# Altium footprint library WB_CONNECTOR.PcbLib: 32 footprints (part 3 of 3)
Each footprint in its own frame and in the unit in brackets; x right, y up, seen from the top. Pads: shape width x height; smd on the part's side, far side on the other; paste and mask are expansions set on the pad; w line width, h text height; cw(c..) or ccw(c..) is an arc to the next point about the centre after c.
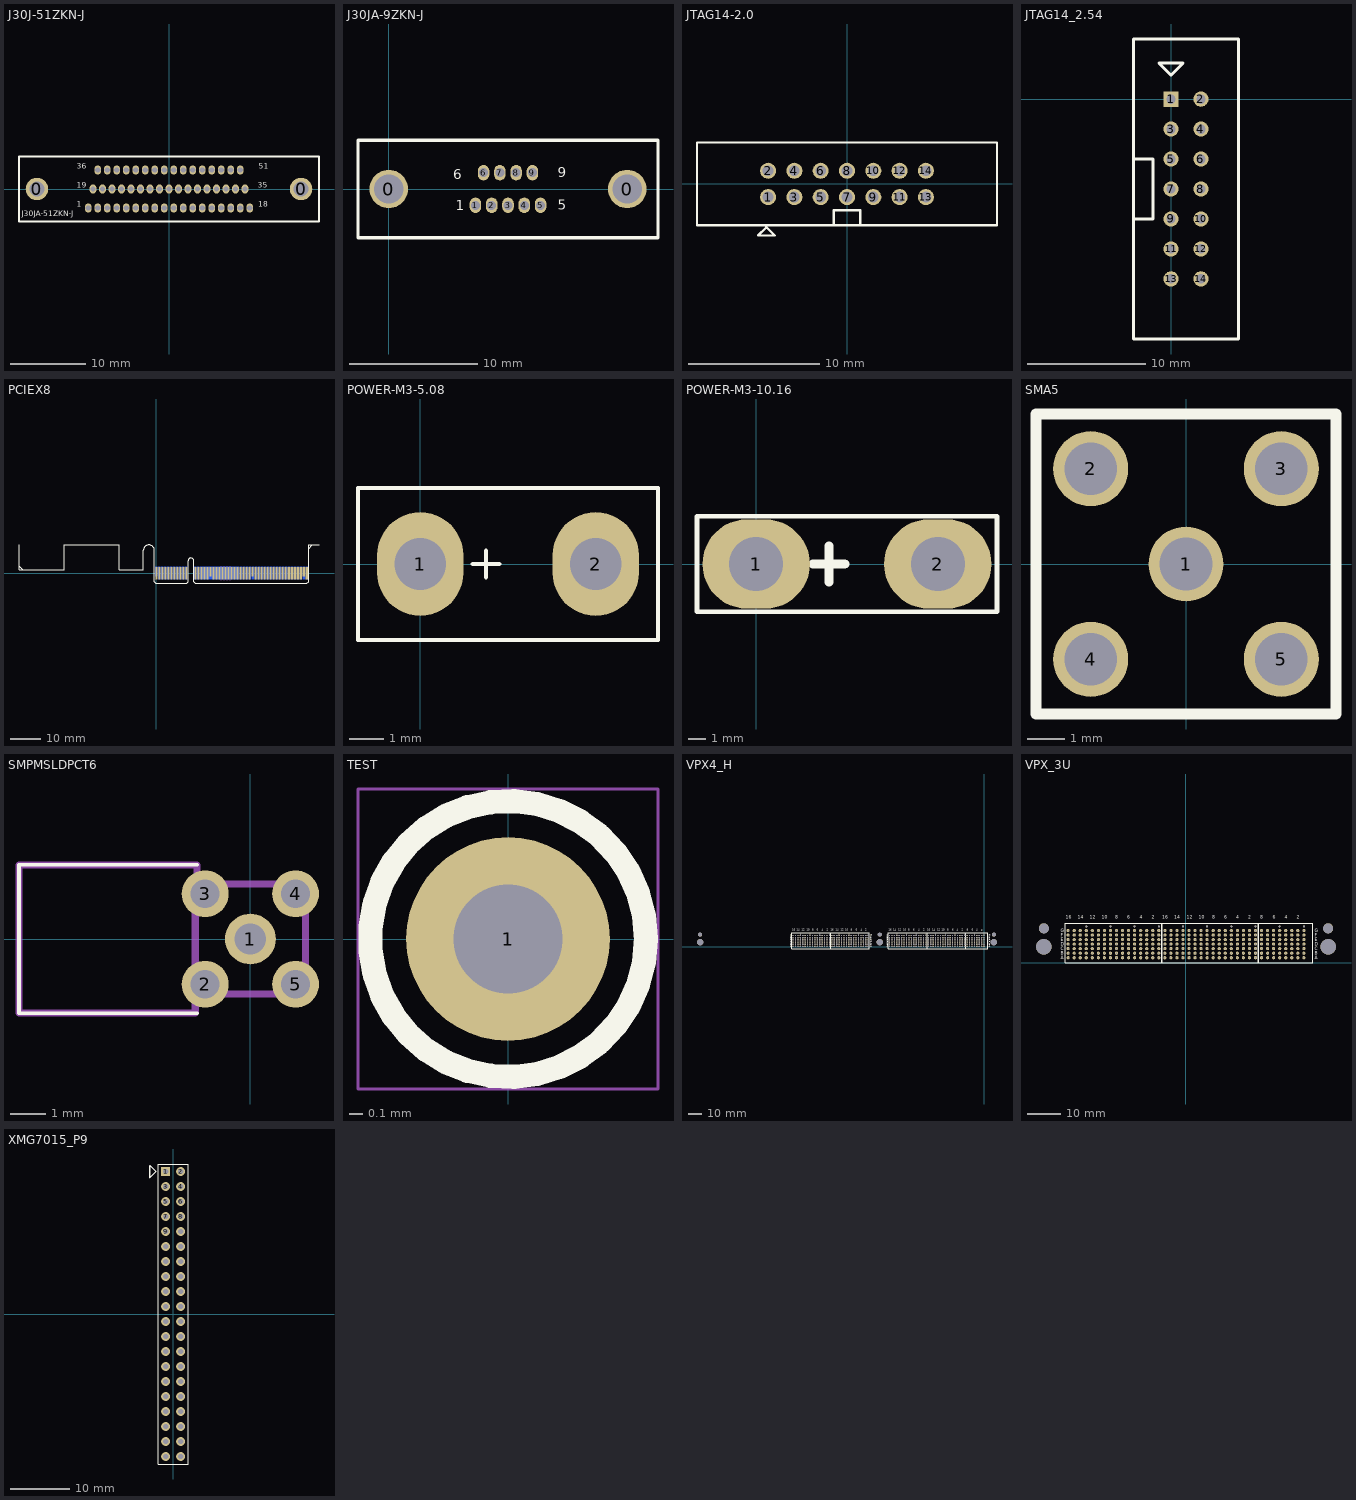
[diagram p2: the footprints below, top view; thin cyan lines are the x and y axes]

## J30J-51ZKN-J [mm]
height 20
pads (53):
  round 3 hole 2: 0(-17.65,0) 0(17.65,0)
  oval 0.9x1.2 hole 0.7: 1(-10.795,-2.54) 2(-9.525,-2.54) 3(-8.255,-2.54) 4(-6.985,-2.54) 5(-5.715,-2.54) 6(-4.445,-2.54) 7(-3.175,-2.54) 8(-1.905,-2.54) 9(-0.635,-2.54) 10(0.635,-2.54) 11(1.905,-2.54) 12(3.175,-2.54) 13(4.445,-2.54) 14(5.715,-2.54) 15(6.985,-2.54) 16(8.255,-2.54) 17(9.525,-2.54) 18(10.795,-2.54) 19(-10.16,0) 20(-8.89,0) 21(-7.62,0) 22(-6.35,0) 23(-5.08,0) 24(-3.81,0) 25(-2.54,0) 26(-1.27,0) 27(0,0) 28(1.27,0) 29(2.54,0) 30(3.81,0) 31(5.08,0) 32(6.35,0) 33(7.62,0) 34(8.89,0) 35(10.16,0) 36(-9.525,2.54) 37(-8.255,2.54) 38(-6.985,2.54) 39(-5.715,2.54) 40(-4.445,2.54) 41(-3.175,2.54) 42(-1.905,2.54) 43(-0.635,2.54) 44(0.635,2.54) 45(1.905,2.54) 46(3.175,2.54) 47(4.445,2.54) 48(5.715,2.54) 49(6.985,2.54) 50(8.255,2.54) 51(9.525,2.54)
Top Overlay:
  lines w0.254: -20.05,-4.35 20.05,-4.35 20.05,4.35 -20.05,4.35 -20.05,-4.35
  text "51" at 12.02,2.426 h1.27
  text "35" at 11.858,-0.113 h1.27
  text "36" at -12.319,2.441 h1.27
  text "19" at -12.319,-0.1 h1.27
  text "18" at 11.938,-2.654 h1.27
  text "1" at -12.319,-2.653 h1.27
  text "J30JA-51ZKN-J" at -19.688,-3.923 h1.27

## J30JA-9ZKN-J [mm]
pads (11):
  round 3 hole 2.3: 0(0,0) 0(18.6,0)
  oval 0.9x1.2 hole 0.7: 1(6.76,-1.27) 2(8.03,-1.27) 3(9.3,-1.27) 4(10.57,-1.27) 5(11.84,-1.27) 6(7.395,1.27) 7(8.665,1.27) 8(9.935,1.27) 9(11.205,1.27)
Top Overlay:
  lines w0.254: -2.4,-3.8 18.6,-3.8 21,-3.8 21,0 21,3.8 0,3.8 -2.4,3.8 -2.4,0 -2.4,-3.8
  text "1" at 5.207,-1.651 h0.76
  text "5" at 13.162,-1.623 h0.76
  text "9" at 13.162,0.917 h0.76
  text "6" at 5.028,0.745 h0.76

## JTAG14-2.0 [mil]
height 39.37
pads (14):
  round 48 hole 32: 1(-236.22,-39.37) 2(-236.22,39.37) 3(-157.48,-39.37) 4(-157.48,39.37) 5(-78.74,-39.37) 6(-78.74,39.37) 7(0,-39.37) 8(0,39.37) 9(78.74,-39.37) 10(78.74,39.37) 11(157.48,-39.37) 12(157.48,39.37) 13(236.22,-39.37) 14(236.22,39.37)
Top Overlay:
  lines w7: -39.37,-124.02 -39.37,-78.74 39.37,-78.74 39.37,-124.02 ; -448.82,-124.02 448.82,-124.02 448.82,124.02 -448.82,124.02 -448.82,-124.02 ; -266.22,-154.37 -241.22,-129.37 -216.22,-154.37 -266.22,-154.37

## JTAG14_2.54 [mm]
pads (14):
  rect 1.3x1.3 hole 0.8: 1(0,0)
  round 1.3 hole 0.8: 2(2.54,0) 3(0,-2.54) 4(2.54,-2.54) 5(0,-5.08) 6(2.54,-5.08) 7(0,-7.62) 8(2.54,-7.62) 9(0,-10.16) 10(2.54,-10.16) 11(0,-12.7) 12(2.54,-12.7) 13(0,-15.24) 14(2.54,-15.24)
Top Overlay:
  lines w0.254: -3.18,-10.16 -1.524,-10.16 -1.524,-5.08 -3.18,-5.08 ; -3.18,-20.335 5.72,-20.335 5.72,5.095 -3.18,5.095 -3.18,-20.335 ; -1.016,3.048 0,2.032 1.016,3.048 -1.016,3.048

## PCIEX8 [mm] "PCIEX8"
pads (98):
  rect 0.7x3.2 smd far side: A1(0,0.5)
  rect 0.7x4.2 smd far side: A2(1,0) A3(2,0) A4(3,0) A5(4,0) A6(5,0) A7(6,0) A8(7,0) A9(8,0) A10(9,0) A11(10,0) A12(13,0) A13(14,0) A14(15,0) A15(16,0) A16(17,0) A17(18,0) A18(19,0) A19(20,0) A20(21,0) A21(22,0) A22(23,0) A23(24,0) A24(25,0) A25(26,0) A26(27,0) A27(28,0) A28(29,0) A29(30,0) A30(31,0) A31(32,0) A32(33,0)
  rect 0.711x4.191 smd far side: A33(34,0) A34(35,0) A35(36,0) A36(37,0) A37(38,0) A38(39,0) A39(40,0) A40(41,0) A41(42,0) A42(43,0) A43(44,0) A44(45,0) A45(46,0) A46(47,0) A47(48,0) A48(49,0) A49(50,0)
  rect 0.7x4.2 smd: B1(0,0) B2(1,0) B3(2,0) B4(3,0) B5(4,0) B6(5,0) B7(6,0) B8(7,0) B9(8,0) B10(9,0) B11(10,0) B12(13,0) B13(14,0) B14(15,0) B15(16,0) B16(17,0) B18(19,0) B19(20,0) B20(21,0) B21(22,0) B22(23,0) B23(24,0) B24(25,0) B25(26,0) B26(27,0) B27(28,0) B28(29,0) B29(30,0) B30(31,0) B32(33,0)
  rect 0.7x3.2 smd: B17(18,0.5) B31(32,0.5)
  rect 0.711x4.191 smd: B33(34,0) B34(35,0) B35(36,0) B36(37,0) B37(38,0) B38(39,0) B39(40,0) B40(41,0) B41(42,0) B42(43,0) B43(44,0) B44(45,0) B45(46,0) B46(47,0) B47(48,0) B49(50,0)
  rect 0.711x3.2 smd: B48(49,0.495)
Top Overlay:
  lines w0.127: -45.65,9.377 -45.65,1.127 -30.65,1.127 -30.65,9.377 -12.3,9.377 -12.3,1.127 -4.3,1.127 -4.3,7.552 cw(c-2.475,7.552) -2.475,9.377 cw(c-2.475,7.552) -0.65,7.552 -0.65,-2.873 -0.15,-3.373 10.05,-3.373 10.55,-2.873 10.55,4.077 cw(c11.5,4.077) 11.5,5.027 cw(c11.5,4.077) 12.45,4.077 12.45,-2.873 12.95,-3.373 50.069,-3.373 50.648,-2.794 50.648,9.433 54.077,9.433 ; -45.643,2.311 -44.348,1.143 ; 50.664,8.131 51.832,9.426
Mechanical 15:
  lines w0.025: 21.5,-2.3 21.5,2.3 ; 22.5,-2.3 22.5,2.3 ; 23.5,-2.3 23.5,2.3 ; 24.5,-2.3 24.5,2.3

## POWER-M3-5.08 [mm]
pads (2):
  oval 2.5x3 hole 1.5: 1(0,0) 2(5.08,0)
Top Overlay:
  lines w0.127: 1.524,0 2.286,0 ; 1.905,-0.381 1.905,0.381 ; -1.8,-2.2 -1.8,0 -1.8,2.2 6.88,2.2 6.88,-2.2 -1.8,-2.2

## POWER-M3-10.16 [mm]
pads (2):
  oval 6x5 hole 3: 1(0,0) 2(10.16,0)
Top Overlay:
  lines w0.254: -3.302,-2.667 13.462,-2.667 13.462,2.667 -3.302,2.667 -3.302,-0.74 -3.302,-2.667
  lines w0.508: 3.175,0 4.953,0 ; 4.064,-1.016 4.064,1.016

## SMA5 [mm]
pads (5):
  round 2 hole 1.4: 1(0,0) 2(-2.54,2.54) 3(2.54,2.54) 4(-2.54,-2.54) 5(2.54,-2.54)
Top Overlay:
  lines w0.305: -4,-4 -4,4 4,4 4,-4 -4,-4

## SMPMSLDPCT6 [mm]
pads (5):
  round 1.43 hole 0.88: 1(0,0)
  round 1.316 hole 0.81: 2(-1.27,-1.27) 3(-1.27,1.27) 4(1.27,1.27) 5(1.27,-1.27)
Top Overlay:
  lines w0.1: -1.5,-2.08 -6.5,-2.08 -6.5,2.08 -1.5,2.08
Mechanical 13:
  lines w0.2: -1.55,-1.27 -1.55,-2.08 -6.5,-2.08 -6.5,2.08 -1.5,2.08 -1.5,1.5 ; -1.55,-1.55 1.55,-1.55 1.55,1.55 -1.55,1.55 -1.55,-1.55

## TEST [mil] "TEST"
pads (1):
  round 59.06 / inner round 0 / far side round 59.06 hole 31.5: 1(0,0)
Top Overlay:
  circle w7: c0,0 r40
Mechanical 7:
  lines w1: -43.5,-43.5 43.5,-43.5 43.5,43.5 -43.5,43.5 -43.5,-43.5

## VPX4_H [mm]
pads (528):
  round 0.95 hole 0.45: P0_A1(0,0) P0_A2(-1.8,0) P0_A3(-3.6,0) P0_A4(-5.4,0) P0_A5(-7.2,0) P0_A6(-9,0) P0_A7(-10.8,0) P0_A8(-12.6,0) P0_B1(0,1.35) P0_B2(-1.8,1.35) P0_B3(-3.6,1.35) P0_B4(-5.4,1.35) P0_B5(-7.2,1.35) P0_B6(-9,1.35) P0_B7(-10.8,1.35) P0_B8(-12.6,1.35) P0_C1(0,2.7) P0_C2(-1.8,2.7) P0_C3(-3.6,2.7) P0_C4(-5.4,2.7) P0_C5(-7.2,2.7) P0_C6(-9,2.7) P0_C7(-10.8,2.7) P0_C8(-12.6,2.7) P0_D1(0,4.05) P0_D2(-1.8,4.05) P0_D3(-3.6,4.05) P0_D4(-5.4,4.05) P0_D5(-7.2,4.05) P0_D6(-9,4.05) P0_D7(-10.8,4.05) P0_D8(-12.6,4.05) P0_E1(0,5.4) P0_E2(-1.8,5.4) P0_E3(-3.6,5.4) P0_E4(-5.4,5.4) P0_E5(-7.2,5.4) P0_E6(-9,5.4) P0_E7(-10.8,5.4) P0_E8(-12.6,5.4) P0_F1(0,6.75) P0_F2(-1.8,6.75) P0_F3(-3.6,6.75) P0_F4(-5.4,6.75) P0_F5(-7.2,6.75) P0_F6(-9,6.75) P0_F7(-10.8,6.75) P0_F8(-12.6,6.75) P0_G1(0,8.1) P0_G2(-1.8,8.1) P0_G3(-3.6,8.1) P0_G4(-5.4,8.1) P0_G5(-7.2,8.1) P0_G6(-9,8.1) P0_G7(-10.8,8.1) P0_G8(-12.6,8.1) P1_A1(-14.4,0) P1_A2(-16.2,0) P1_A3(-18,0) P1_A4(-19.8,0) P1_A5(-21.6,0) P1_A6(-23.4,0) P1_A7(-25.2,0) P1_A8(-27,0) P1_A9(-28.8,0) P1_A10(-30.6,0) P1_A11(-32.4,0) P1_A12(-34.2,0) P1_A13(-36,0) P1_A14(-37.8,0) P1_A15(-39.6,0) P1_A16(-41.4,0) P1_B1(-14.4,1.35) P1_B2(-16.2,1.35) P1_B3(-18,1.35) P1_B4(-19.8,1.35) P1_B5(-21.6,1.35) P1_B6(-23.4,1.35) P1_B7(-25.2,1.35) P1_B8(-27,1.35) P1_B9(-28.8,1.35) P1_B10(-30.6,1.35) P1_B11(-32.4,1.35) P1_B12(-34.2,1.35) P1_B13(-36,1.35) P1_B14(-37.8,1.35) P1_B15(-39.6,1.35) P1_B16(-41.4,1.35) P1_C1(-14.4,2.7) P1_C2(-16.2,2.7) P1_C3(-18,2.7) P1_C4(-19.8,2.7) P1_C5(-21.6,2.7) P1_C6(-23.4,2.7) P1_C7(-25.2,2.7) P1_C8(-27,2.7) P1_C9(-28.8,2.7) P1_C10(-30.6,2.7) P1_C11(-32.4,2.7) P1_C12(-34.2,2.7) P1_C13(-36,2.7) P1_C14(-37.8,2.7) P1_C15(-39.6,2.7) P1_C16(-41.4,2.7) P1_D1(-14.4,4.05) P1_D2(-16.2,4.05) P1_D3(-18,4.05) P1_D4(-19.8,4.05) P1_D5(-21.6,4.05) P1_D6(-23.4,4.05) P1_D7(-25.2,4.05) P1_D8(-27,4.05) P1_D9(-28.8,4.05) P1_D10(-30.6,4.05) P1_D11(-32.4,4.05) P1_D12(-34.2,4.05) P1_D13(-36,4.05) P1_D14(-37.8,4.05) P1_D15(-39.6,4.05) P1_D16(-41.4,4.05) P1_E1(-14.4,5.4) P1_E2(-16.2,5.4) P1_E3(-18,5.4) P1_E4(-19.8,5.4) P1_E5(-21.6,5.4) P1_E6(-23.4,5.4) P1_E7(-25.2,5.4) P1_E8(-27,5.4) P1_E9(-28.8,5.4) P1_E10(-30.6,5.4) P1_E11(-32.4,5.4) P1_E12(-34.2,5.4) P1_E13(-36,5.4) P1_E14(-37.8,5.4) P1_E15(-39.6,5.4) P1_E16(-41.4,5.4) P1_F1(-14.4,6.75) P1_F2(-16.2,6.75) P1_F3(-18,6.75) P1_F4(-19.8,6.75) P1_F5(-21.6,6.75) P1_F6(-23.4,6.75) P1_F7(-25.2,6.75) P1_F8(-27,6.75) P1_F9(-28.8,6.75) P1_F10(-30.6,6.75) P1_F11(-32.4,6.75) P1_F12(-34.2,6.75) P1_F13(-36,6.75) P1_F14(-37.8,6.75) P1_F15(-39.6,6.75) P1_F16(-41.4,6.75) P1_G1(-14.4,8.1) P1_G2(-16.2,8.1) P1_G3(-18,8.1) P1_G4(-19.8,8.1) P1_G5(-21.6,8.1) P1_G6(-23.4,8.1) P1_G7(-25.2,8.1) P1_G8(-27,8.1) P1_G9(-28.8,8.1) P1_G10(-30.6,8.1) P1_G11(-32.4,8.1) P1_G12(-34.2,8.1) P1_G13(-36,8.1) P1_G14(-37.8,8.1) P1_G15(-39.6,8.1) P1_G16(-41.4,8.1) P2_A1(-43.2,0) P2_A2(-45,0) P2_A3(-46.8,0) P2_A4(-48.6,0) P2_A5(-50.4,0) P2_A6(-52.2,0) P2_A7(-54,0) P2_A8(-55.8,0) P2_A9(-57.6,0) P2_A10(-59.4,0) P2_A11(-61.2,0) P2_A12(-63,0) P2_A13(-64.8,0) P2_A14(-66.6,0) P2_A15(-68.4,0) P2_A16(-70.2,0) P2_B1(-43.2,1.35) P2_B2(-45,1.35) P2_B3(-46.8,1.35) P2_B4(-48.6,1.35) P2_B5(-50.4,1.35) P2_B6(-52.2,1.35) P2_B7(-54,1.35) P2_B8(-55.8,1.35) P2_B9(-57.6,1.35) P2_B10(-59.4,1.35) P2_B11(-61.2,1.35) P2_B12(-63,1.35) P2_B13(-64.8,1.35) P2_B14(-66.6,1.35) P2_B15(-68.4,1.35) P2_B16(-70.2,1.35) P2_C1(-43.2,2.7) P2_C2(-45,2.7) P2_C3(-46.8,2.7) P2_C4(-48.6,2.7) P2_C5(-50.4,2.7) P2_C6(-52.2,2.7) P2_C7(-54,2.7) P2_C8(-55.8,2.7) P2_C9(-57.6,2.7) P2_C10(-59.4,2.7) P2_C11(-61.2,2.7) P2_C12(-63,2.7) P2_C13(-64.8,2.7) P2_C14(-66.6,2.7) P2_C15(-68.4,2.7) P2_C16(-70.2,2.7) P2_D1(-43.2,4.05) P2_D2(-45,4.05) P2_D3(-46.8,4.05) P2_D4(-48.6,4.05) P2_D5(-50.4,4.05) P2_D6(-52.2,4.05) P2_D7(-54,4.05) P2_D8(-55.8,4.05) P2_D9(-57.6,4.05) P2_D10(-59.4,4.05) P2_D11(-61.2,4.05) P2_D12(-63,4.05) P2_D13(-64.8,4.05) P2_D14(-66.6,4.05) P2_D15(-68.4,4.05) P2_D16(-70.2,4.05) P2_E1(-43.2,5.4) P2_E2(-45,5.4) P2_E3(-46.8,5.4) P2_E4(-48.6,5.4) P2_E5(-50.4,5.4) P2_E6(-52.2,5.4) P2_E7(-54,5.4) P2_E8(-55.8,5.4) P2_E9(-57.6,5.4) P2_E10(-59.4,5.4) P2_E11(-61.2,5.4) P2_E12(-63,5.4) P2_E13(-64.8,5.4) P2_E14(-66.6,5.4) P2_E15(-68.4,5.4) P2_E16(-70.2,5.4) P2_F1(-43.2,6.75) P2_F2(-45,6.75) P2_F3(-46.8,6.75) P2_F4(-48.6,6.75) P2_F5(-50.4,6.75) P2_F6(-52.2,6.75) P2_F7(-54,6.75) P2_F8(-55.8,6.75) P2_F9(-57.6,6.75) P2_F10(-59.4,6.75) P2_F11(-61.2,6.75) P2_F12(-63,6.75) P2_F13(-64.8,6.75) P2_F14(-66.6,6.75) P2_F15(-68.4,6.75) P2_F16(-70.2,6.75) P2_G1(-43.2,8.1) P2_G2(-45,8.1) P2_G3(-46.8,8.1) P2_G4(-48.6,8.1) P2_G5(-50.4,8.1) P2_G6(-52.2,8.1) P2_G7(-54,8.1) P2_G8(-55.8,8.1) P2_G9(-57.6,8.1) P2_G10(-59.4,8.1) P2_G11(-61.2,8.1) P2_G12(-63,8.1) P2_G13(-64.8,8.1) P2_G14(-66.6,8.1) P2_G15(-68.4,8.1) P2_G16(-70.2,8.1) P3_A1(-86.02,0) P3_A2(-87.82,0) P3_A3(-89.62,0) P3_A4(-91.42,0) P3_A5(-93.22,0) P3_A6(-95.02,0) P3_A7(-96.82,0) P3_A8(-98.62,0) P3_A9(-100.42,0) P3_A10(-102.22,0) P3_A11(-104.02,0) P3_A12(-105.82,0) P3_A13(-107.62,0) P3_A14(-109.42,0) P3_A15(-111.22,0) P3_A16(-113.02,0) P3_B1(-86.02,1.35) P3_B2(-87.82,1.35) P3_B3(-89.62,1.35) P3_B4(-91.42,1.35) P3_B5(-93.22,1.35) P3_B6(-95.02,1.35) P3_B7(-96.82,1.35) P3_B8(-98.62,1.35) P3_B9(-100.42,1.35) P3_B10(-102.22,1.35) P3_B11(-104.02,1.35) P3_B12(-105.82,1.35) P3_B13(-107.62,1.35) P3_B14(-109.42,1.35) P3_B15(-111.22,1.35) P3_B16(-113.02,1.35) P3_C1(-86.02,2.7) P3_C2(-87.82,2.7) P3_C3(-89.62,2.7) P3_C4(-91.42,2.7) P3_C5(-93.22,2.7) P3_C6(-95.02,2.7) P3_C7(-96.82,2.7) P3_C8(-98.62,2.7) P3_C9(-100.42,2.7) P3_C10(-102.22,2.7) P3_C11(-104.02,2.7) P3_C12(-105.82,2.7) P3_C13(-107.62,2.7) P3_C14(-109.42,2.7) P3_C15(-111.22,2.7) P3_C16(-113.02,2.7) P3_D1(-86.02,4.05) P3_D2(-87.82,4.05) P3_D3(-89.62,4.05) P3_D4(-91.42,4.05) P3_D5(-93.22,4.05) P3_D6(-95.02,4.05) P3_D7(-96.82,4.05) P3_D8(-98.62,4.05) P3_D9(-100.42,4.05) P3_D10(-102.22,4.05) P3_D11(-104.02,4.05) P3_D12(-105.82,4.05) P3_D13(-107.62,4.05) P3_D14(-109.42,4.05) P3_D15(-111.22,4.05) P3_D16(-113.02,4.05) P3_E1(-86.02,5.4) P3_E2(-87.82,5.4) P3_E3(-89.62,5.4) P3_E4(-91.42,5.4) P3_E5(-93.22,5.4) P3_E6(-95.02,5.4) P3_E7(-96.82,5.4) P3_E8(-98.62,5.4) P3_E9(-100.42,5.4) P3_E10(-102.22,5.4) P3_E11(-104.02,5.4) P3_E12(-105.82,5.4) P3_E13(-107.62,5.4) P3_E14(-109.42,5.4) P3_E15(-111.22,5.4) P3_E16(-113.02,5.4) P3_F1(-86.02,6.75) P3_F2(-87.82,6.75) P3_F3(-89.62,6.75) P3_F4(-91.42,6.75) P3_F5(-93.22,6.75) P3_F6(-95.02,6.75) P3_F7(-96.82,6.75) P3_F8(-98.62,6.75) P3_F9(-100.42,6.75) P3_F10(-102.22,6.75) P3_F11(-104.02,6.75) P3_F12(-105.82,6.75) P3_F13(-107.62,6.75) P3_F14(-109.42,6.75) P3_F15(-111.22,6.75) P3_F16(-113.02,6.75) P3_G1(-86.02,8.1) P3_G2(-87.82,8.1) P3_G3(-89.62,8.1) P3_G4(-91.42,8.1) P3_G5(-93.22,8.1) P3_G6(-95.02,8.1) P3_G7(-96.82,8.1) P3_G8(-98.62,8.1) P3_G9(-100.42,8.1) P3_G10(-102.22,8.1) P3_G11(-104.02,8.1) P3_G12(-105.82,8.1) P3_G13(-107.62,8.1) P3_G14(-109.42,8.1) P3_G15(-111.22,8.1) P3_G16(-113.02,8.1) P4_A1(-114.82,0) P4_A2(-116.62,0) P4_A3(-118.42,0) P4_A4(-120.22,0) P4_A5(-122.02,0) P4_A6(-123.82,0) P4_A7(-125.62,0) P4_A8(-127.42,0) P4_A9(-129.22,0) P4_A10(-131.02,0) P4_A11(-132.82,0) P4_A12(-134.62,0) P4_A13(-136.42,0) P4_A14(-138.22,0) P4_A15(-140.02,0) P4_A16(-141.82,0) P4_B1(-114.82,1.35) P4_B2(-116.62,1.35) P4_B3(-118.42,1.35) P4_B4(-120.22,1.35) P4_B5(-122.02,1.35) P4_B6(-123.82,1.35) P4_B7(-125.62,1.35) P4_B8(-127.42,1.35) P4_B9(-129.22,1.35) P4_B10(-131.02,1.35) P4_B11(-132.82,1.35) P4_B12(-134.62,1.35) P4_B13(-136.42,1.35) P4_B14(-138.22,1.35) P4_B15(-140.02,1.35) P4_B16(-141.82,1.35) P4_C1(-114.82,2.7) P4_C2(-116.62,2.7) P4_C3(-118.42,2.7) P4_C4(-120.22,2.7) P4_C5(-122.02,2.7) P4_C6(-123.82,2.7) P4_C7(-125.62,2.7) P4_C8(-127.42,2.7) P4_C9(-129.22,2.7) P4_C10(-131.02,2.7) P4_C11(-132.82,2.7) P4_C12(-134.62,2.7) P4_C13(-136.42,2.7) P4_C14(-138.22,2.7) P4_C15(-140.02,2.7) P4_C16(-141.82,2.7) P4_D1(-114.82,4.05) P4_D2(-116.62,4.05) P4_D3(-118.42,4.05) P4_D4(-120.22,4.05) P4_D5(-122.02,4.05) P4_D6(-123.82,4.05) P4_D7(-125.62,4.05) P4_D8(-127.42,4.05) P4_D9(-129.22,4.05) P4_D10(-131.02,4.05) P4_D11(-132.82,4.05) P4_D12(-134.62,4.05) P4_D13(-136.42,4.05) P4_D14(-138.22,4.05) P4_D15(-140.02,4.05) P4_D16(-141.82,4.05) P4_E1(-114.82,5.4) P4_E2(-116.62,5.4) P4_E3(-118.42,5.4) P4_E4(-120.22,5.4) P4_E5(-122.02,5.4) P4_E6(-123.82,5.4) P4_E7(-125.62,5.4) P4_E8(-127.42,5.4) P4_E9(-129.22,5.4) P4_E10(-131.02,5.4) P4_E11(-132.82,5.4) P4_E12(-134.62,5.4) P4_E13(-136.42,5.4) P4_E14(-138.22,5.4) P4_E15(-140.02,5.4) P4_E16(-141.82,5.4) P4_F1(-114.82,6.75) P4_F2(-116.62,6.75) P4_F3(-118.42,6.75) P4_F4(-120.22,6.75) P4_F5(-122.02,6.75) P4_F6(-123.82,6.75) P4_F7(-125.62,6.75) P4_F8(-127.42,6.75) P4_F9(-129.22,6.75) P4_F10(-131.02,6.75) P4_F11(-132.82,6.75) P4_F12(-134.62,6.75) P4_F13(-136.42,6.75) P4_F14(-138.22,6.75) P4_F15(-140.02,6.75) P4_F16(-141.82,6.75) P4_G1(-114.82,8.1) P4_G2(-116.62,8.1) P4_G3(-118.42,8.1) P4_G4(-120.22,8.1) P4_G5(-122.02,8.1) P4_G6(-123.82,8.1) P4_G7(-125.62,8.1) P4_G8(-127.42,8.1) P4_G9(-129.22,8.1) P4_G10(-131.02,8.1) P4_G11(-132.82,8.1) P4_G12(-134.62,8.1) P4_G13(-136.42,8.1) P4_G14(-138.22,8.1) P4_G15(-140.02,8.1) P4_G16(-141.82,8.1)
  round 4.65 hole 4.65: ""(-210.8,3.25) ""(-77.45,3.25) ""(7.25,3.25)
  round 3 hole 3: ""(-210.8,8.75) ""(-77.45,8.75) ""(7.25,8.75)
  round 0.6 hole 0.6: ""(-136.42,9.35) ""(-129.22,9.35) ""(-122.02,9.35) ""(-114.82,9.35) ""(-107.62,9.35) ""(-100.42,9.35) ""(-93.22,9.35) ""(-86.02,9.35) ""(-64.8,9.35) ""(-57.6,9.35) ""(-50.4,9.35) ""(-43.2,9.35) ""(-36,9.35) ""(-28.8,9.35) ""(-21.6,9.35) ""(-14.4,9.35) ""(-7.2,9.35) ""(0,9.35)
Top Overlay:
  lines w0.254: -142.66,-1.5 -113.98,-1.5 -113.98,10.31 -142.66,10.31 -142.66,-1.5 ; -113.86,-1.5 -85.18,-1.5 -85.18,10.31 -113.86,10.31 -113.86,-1.5 ; -71.04,-1.5 -42.36,-1.5 -42.36,10.31 -71.04,10.31 -71.04,-1.5 ; -42.24,-1.5 -13.56,-1.5 -13.56,10.31 -42.24,10.31 -42.24,-1.5 ; -13.44,-1.5 2.64,-1.5 2.64,10.31 -13.44,10.31 -13.44,-1.5
  text "F" at -143.953,6.25 h1
  text "E" at -143.953,4.9 h1
  text "D" at -143.953,3.55 h1
  text "C" at -143.953,2.2 h1
  text "G" at -143.953,7.6 h1
  text "A" at -143.953,-0.5 h1
  text "B" at -143.953,0.85 h1
  text "6" at -124.153,11.65 h1
  text "8" at -127.753,11.65 h1
  text "4" at -120.553,11.65 h1
  text "2" at -116.953,11.65 h1
  text "10" at -131.77,11.65 h1
  text "12" at -135.37,11.65 h1
  text "16" at -142.57,11.65 h1
  text "14" at -138.97,11.65 h1
  text "6" at -95.353,11.65 h1
  text "8" at -98.953,11.65 h1
  text "4" at -91.753,11.65 h1
  text "2" at -88.153,11.65 h1
  text "10" at -102.97,11.65 h1
  text "12" at -106.57,11.65 h1
  text "16" at -113.77,11.65 h1
  text "14" at -110.17,11.65 h1
  text "6" at -52.533,11.65 h1
  text "8" at -56.133,11.65 h1
  text "4" at -48.933,11.65 h1
  text "2" at -45.333,11.65 h1
  text "10" at -60.15,11.65 h1
  text "12" at -63.75,11.65 h1
  text "16" at -70.95,11.65 h1
  text "14" at -67.35,11.65 h1
  text "6" at -23.733,11.65 h1
  text "8" at -27.333,11.65 h1
  text "4" at -20.133,11.65 h1
  text "2" at -16.533,11.65 h1
  text "10" at -31.35,11.65 h1
  text "12" at -34.95,11.65 h1
  text "16" at -42.15,11.65 h1
  text "14" at -38.55,11.65 h1
  text "2" at -1.961,11.378 h1
  text "4" at -5.733,11.65 h1
  text "8" at -12.933,11.65 h1
  text "6" at -9.333,11.65 h1
  text "B" at 3.267,0.85 h1
  text "A" at 3.267,-0.5 h1
  text "G" at 3.267,7.6 h1
  text "C" at 3.267,2.2 h1
  text "D" at 3.267,3.55 h1
  text "E" at 3.267,4.9 h1
  text "F" at 3.267,6.25 h1
  text "F" at -84.553,6.25 h1
  text "E" at -84.553,4.9 h1
  text "D" at -84.553,3.55 h1
  text "C" at -84.553,2.2 h1
  text "G" at -84.553,7.6 h1
  text "A" at -84.553,-0.5 h1
  text "B" at -84.553,0.85 h1
  text "B" at -72.333,0.85 h1
  text "A" at -72.333,-0.5 h1
  text "G" at -72.333,7.6 h1
  text "C" at -72.333,2.2 h1
  text "D" at -72.333,3.55 h1
  text "E" at -72.333,4.9 h1
  text "F" at -72.333,6.25 h1
Bottom Overlay:
  text "F" at -143.287,6.25 h1
  text "E" at -143.287,4.9 h1
  text "D" at -143.287,3.55 h1
  text "C" at -143.287,2.2 h1
  text "G" at -143.287,7.6 h1
  text "A" at -143.287,-0.5 h1
  text "B" at -143.287,0.85 h1
  text "16" at -141.07,11.65 h1
  text "14" at -137.47,11.65 h1
  text "12" at -133.87,11.65 h1
  text "10" at -130.27,11.65 h1
  text "6" at -123.487,11.65 h1
  text "8" at -127.087,11.65 h1
  text "4" at -119.887,11.65 h1
  text "2" at -116.287,11.65 h1
  text "16" at -112.27,11.65 h1
  text "14" at -108.67,11.65 h1
  text "12" at -105.07,11.65 h1
  text "10" at -101.47,11.65 h1
  text "6" at -94.687,11.65 h1
  text "8" at -98.287,11.65 h1
  text "4" at -91.087,11.65 h1
  text "2" at -87.487,11.65 h1
  text "16" at -69.45,11.65 h1
  text "14" at -65.85,11.65 h1
  text "12" at -62.25,11.65 h1
  text "10" at -58.65,11.65 h1
  text "6" at -51.867,11.65 h1
  text "8" at -55.467,11.65 h1
  text "4" at -48.267,11.65 h1
  text "2" at -44.667,11.65 h1
  text "16" at -40.65,11.65 h1
  text "14" at -37.05,11.65 h1
  text "12" at -33.45,11.65 h1
  text "10" at -29.85,11.65 h1
  text "6" at -23.067,11.65 h1
  text "8" at -26.667,11.65 h1
  text "4" at -19.467,11.65 h1
  text "2" at -15.867,11.65 h1
  text "B" at 3.933,0.85 h1
  text "A" at 3.933,-0.5 h1
  text "G" at 3.933,7.6 h1
  text "C" at 3.933,2.2 h1
  text "D" at 3.933,3.55 h1
  text "E" at 3.933,4.9 h1
  text "F" at 3.933,6.25 h1
  text "2" at -1.467,11.65 h1
  text "4" at -5.067,11.65 h1
  text "8" at -12.267,11.65 h1
  text "6" at -8.667,11.65 h1
  text "F" at -83.887,6.25 h1
  text "E" at -83.887,4.9 h1
  text "D" at -83.887,3.55 h1
  text "C" at -83.887,2.2 h1
  text "G" at -83.887,7.6 h1
  text "A" at -83.887,-0.5 h1
  text "B" at -83.887,0.85 h1
  text "B" at -71.667,0.85 h1
  text "A" at -71.667,-0.5 h1
  text "G" at -71.667,7.6 h1
  text "C" at -71.667,2.2 h1
  text "D" at -71.667,3.55 h1
  text "E" at -71.667,4.9 h1
  text "F" at -71.667,6.25 h1

## VPX_3U [mm]
pads (294):
  round 0.95 hole 0.45: P0_A1(35.1,1.5) P0_A2(33.3,1.5) P0_A3(31.5,1.5) P0_A4(29.7,1.5) P0_A5(27.9,1.5) P0_A6(26.1,1.5) P0_A7(24.3,1.5) P0_A8(22.5,1.5) P0_B1(35.1,2.85) P0_B2(33.3,2.85) P0_B3(31.5,2.85) P0_B4(29.7,2.85) P0_B5(27.9,2.85) P0_B6(26.1,2.85) P0_B7(24.3,2.85) P0_B8(22.5,2.85) P0_C1(35.1,4.2) P0_C2(33.3,4.2) P0_C3(31.5,4.2) P0_C4(29.7,4.2) P0_C5(27.9,4.2) P0_C6(26.1,4.2) P0_C7(24.3,4.2) P0_C8(22.5,4.2) P0_D1(35.1,5.55) P0_D2(33.3,5.55) P0_D3(31.5,5.55) P0_D4(29.7,5.55) P0_D5(27.9,5.55) P0_D6(26.1,5.55) P0_D7(24.3,5.55) P0_D8(22.5,5.55) P0_E1(35.1,6.9) P0_E2(33.3,6.9) P0_E3(31.5,6.9) P0_E4(29.7,6.9) P0_E5(27.9,6.9) P0_E6(26.1,6.9) P0_E7(24.3,6.9) P0_E8(22.5,6.9) P0_F1(35.1,8.25) P0_F2(33.3,8.25) P0_F3(31.5,8.25) P0_F4(29.7,8.25) P0_F5(27.9,8.25) P0_F6(26.1,8.25) P0_F7(24.3,8.25) P0_F8(22.5,8.25) P0_G1(35.1,9.6) P0_G2(33.3,9.6) P0_G3(31.5,9.6) P0_G4(29.7,9.6) P0_G5(27.9,9.6) P0_G6(26.1,9.6) P0_G7(24.3,9.6) P0_G8(22.5,9.6) P1_A1(20.7,1.5) P1_A2(18.9,1.5) P1_A3(17.1,1.5) P1_A4(15.3,1.5) P1_A5(13.5,1.5) P1_A6(11.7,1.5) P1_A7(9.9,1.5) P1_A8(8.1,1.5) P1_A9(6.3,1.5) P1_A10(4.5,1.5) P1_A11(2.7,1.5) P1_A12(0.9,1.5) P1_A13(-0.9,1.5) P1_A14(-2.7,1.5) P1_A15(-4.5,1.5) P1_A16(-6.3,1.5) P1_B1(20.7,2.85) P1_B2(18.9,2.85) P1_B3(17.1,2.85) P1_B4(15.3,2.85) P1_B5(13.5,2.85) P1_B6(11.7,2.85) P1_B7(9.9,2.85) P1_B8(8.1,2.85) P1_B9(6.3,2.85) P1_B10(4.5,2.85) P1_B11(2.7,2.85) P1_B12(0.9,2.85) P1_B13(-0.9,2.85) P1_B14(-2.7,2.85) P1_B15(-4.5,2.85) P1_B16(-6.3,2.85) P1_C1(20.7,4.2) P1_C2(18.9,4.2) P1_C3(17.1,4.2) P1_C4(15.3,4.2) P1_C5(13.5,4.2) P1_C6(11.7,4.2) P1_C7(9.9,4.2) P1_C8(8.1,4.2) P1_C9(6.3,4.2) P1_C10(4.5,4.2) P1_C11(2.7,4.2) P1_C12(0.9,4.2) P1_C13(-0.9,4.2) P1_C14(-2.7,4.2) P1_C15(-4.5,4.2) P1_C16(-6.3,4.2) P1_D1(20.7,5.55) P1_D2(18.9,5.55) P1_D3(17.1,5.55) P1_D4(15.3,5.55) P1_D5(13.5,5.55) P1_D6(11.7,5.55) P1_D7(9.9,5.55) P1_D8(8.1,5.55) P1_D9(6.3,5.55) P1_D10(4.5,5.55) P1_D11(2.7,5.55) P1_D12(0.9,5.55) P1_D13(-0.9,5.55) P1_D14(-2.7,5.55) P1_D15(-4.5,5.55) P1_D16(-6.3,5.55) P1_E1(20.7,6.9) P1_E2(18.9,6.9) P1_E3(17.1,6.9) P1_E4(15.3,6.9) P1_E5(13.5,6.9) P1_E6(11.7,6.9) P1_E7(9.9,6.9) P1_E8(8.1,6.9) P1_E9(6.3,6.9) P1_E10(4.5,6.9) P1_E11(2.7,6.9) P1_E12(0.9,6.9) P1_E13(-0.9,6.9) P1_E14(-2.7,6.9) P1_E15(-4.5,6.9) P1_E16(-6.3,6.9) P1_F1(20.7,8.25) P1_F2(18.9,8.25) P1_F3(17.1,8.25) P1_F4(15.3,8.25) P1_F5(13.5,8.25) P1_F6(11.7,8.25) P1_F7(9.9,8.25) P1_F8(8.1,8.25) P1_F9(6.3,8.25) P1_F10(4.5,8.25) P1_F11(2.7,8.25) P1_F12(0.9,8.25) P1_F13(-0.9,8.25) P1_F14(-2.7,8.25) P1_F15(-4.5,8.25) P1_F16(-6.3,8.25) P1_G1(20.7,9.6) P1_G2(18.9,9.6) P1_G3(17.1,9.6) P1_G4(15.3,9.6) P1_G5(13.5,9.6) P1_G6(11.7,9.6) P1_G7(9.9,9.6) P1_G8(8.1,9.6) P1_G9(6.3,9.6) P1_G10(4.5,9.6) P1_G11(2.7,9.6) P1_G12(0.9,9.6) P1_G13(-0.9,9.6) P1_G14(-2.7,9.6) P1_G15(-4.5,9.6) P1_G16(-6.3,9.6) P2_A1(-8.1,1.5) P2_A2(-9.9,1.5) P2_A3(-11.7,1.5) P2_A4(-13.5,1.5) P2_A5(-15.3,1.5) P2_A6(-17.1,1.5) P2_A7(-18.9,1.5) P2_A8(-20.7,1.5) P2_A9(-22.5,1.5) P2_A10(-24.3,1.5) P2_A11(-26.1,1.5) P2_A12(-27.9,1.5) P2_A13(-29.7,1.5) P2_A14(-31.5,1.5) P2_A15(-33.3,1.5) P2_A16(-35.1,1.5) P2_B1(-8.1,2.85) P2_B2(-9.9,2.85) P2_B3(-11.7,2.85) P2_B4(-13.5,2.85) P2_B5(-15.3,2.85) P2_B6(-17.1,2.85) P2_B7(-18.9,2.85) P2_B8(-20.7,2.85) P2_B9(-22.5,2.85) P2_B10(-24.3,2.85) P2_B11(-26.1,2.85) P2_B12(-27.9,2.85) P2_B13(-29.7,2.85) P2_B14(-31.5,2.85) P2_B15(-33.3,2.85) P2_B16(-35.1,2.85) P2_C1(-8.1,4.2) P2_C2(-9.9,4.2) P2_C3(-11.7,4.2) P2_C4(-13.5,4.2) P2_C5(-15.3,4.2) P2_C6(-17.1,4.2) P2_C7(-18.9,4.2) P2_C8(-20.7,4.2) P2_C9(-22.5,4.2) P2_C10(-24.3,4.2) P2_C11(-26.1,4.2) P2_C12(-27.9,4.2) P2_C13(-29.7,4.2) P2_C14(-31.5,4.2) P2_C15(-33.3,4.2) P2_C16(-35.1,4.2) P2_D1(-8.1,5.55) P2_D2(-9.9,5.55) P2_D3(-11.7,5.55) P2_D4(-13.5,5.55) P2_D5(-15.3,5.55) P2_D6(-17.1,5.55) P2_D7(-18.9,5.55) P2_D8(-20.7,5.55) P2_D9(-22.5,5.55) P2_D10(-24.3,5.55) P2_D11(-26.1,5.55) P2_D12(-27.9,5.55) P2_D13(-29.7,5.55) P2_D14(-31.5,5.55) P2_D15(-33.3,5.55) P2_D16(-35.1,5.55) P2_E1(-8.1,6.9) P2_E2(-9.9,6.9) P2_E3(-11.7,6.9) P2_E4(-13.5,6.9) P2_E5(-15.3,6.9) P2_E6(-17.1,6.9) P2_E7(-18.9,6.9) P2_E8(-20.7,6.9) P2_E9(-22.5,6.9) P2_E10(-24.3,6.9) P2_E11(-26.1,6.9) P2_E12(-27.9,6.9) P2_E13(-29.7,6.9) P2_E14(-31.5,6.9) P2_E15(-33.3,6.9) P2_E16(-35.1,6.9) P2_F1(-8.1,8.25) P2_F2(-9.9,8.25) P2_F3(-11.7,8.25) P2_F4(-13.5,8.25) P2_F5(-15.3,8.25) P2_F6(-17.1,8.25) P2_F7(-18.9,8.25) P2_F8(-20.7,8.25) P2_F9(-22.5,8.25) P2_F10(-24.3,8.25) P2_F11(-26.1,8.25) P2_F12(-27.9,8.25) P2_F13(-29.7,8.25) P2_F14(-31.5,8.25) P2_F15(-33.3,8.25) P2_F16(-35.1,8.25) P2_G1(-8.1,9.6) P2_G2(-9.9,9.6) P2_G3(-11.7,9.6) P2_G4(-13.5,9.6) P2_G5(-15.3,9.6) P2_G6(-17.1,9.6) P2_G7(-18.9,9.6) P2_G8(-20.7,9.6) P2_G9(-22.5,9.6) P2_G10(-24.3,9.6) P2_G11(-26.1,9.6) P2_G12(-27.9,9.6) P2_G13(-29.7,9.6) P2_G14(-31.5,9.6) P2_G15(-33.3,9.6) P2_G16(-35.1,9.6)
  round 4.65 hole 4.65: ""(-42.35,4.75) ""(42.35,4.75)
  round 3 hole 3: ""(-42.35,10.25) ""(42.35,10.25)
  round 0.6 hole 0.6: ""(-29.7,10.85) ""(-22.5,10.85) ""(-15.3,10.85) ""(-8.1,10.85) ""(-0.9,10.85) ""(6.3,10.85) ""(13.5,10.85) ""(20.7,10.85) ""(27.9,10.85) ""(35.1,10.85)
Top Overlay:
  lines w0.254: -35.94,0 -35.94,11.81 -7.26,11.81 -7.26,0 -35.94,0 ; -7.14,0 -7.14,11.81 21.54,11.81 21.54,0 -7.14,0 ; 21.66,0 21.66,11.81 37.74,11.81 37.74,0 21.66,0
  text "F" at -37.233,7.75 h1
  text "E" at -37.233,6.4 h1
  text "D" at -37.233,5.05 h1
  text "C" at -37.233,3.7 h1
  text "G" at -37.233,9.1 h1
  text "A" at -37.233,1 h1
  text "B" at -37.233,2.35 h1
  text "F" at 38.367,7.75 h1
  text "E" at 38.367,6.4 h1
  text "D" at 38.367,5.05 h1
  text "C" at 38.367,3.7 h1
  text "G" at 38.367,9.1 h1
  text "A" at 38.367,1 h1
  text "B" at 38.367,2.35 h1
  text "6" at 25.767,13.15 h1
  text "8" at 22.167,13.15 h1
  text "4" at 29.367,13.15 h1
  text "2" at 32.967,13.15 h1
  text "14" at -3.45,13.15 h1
  text "16" at -7.05,13.15 h1
  text "12" at 0.15,13.15 h1
  text "10" at 3.75,13.15 h1
  text "2" at 18.567,13.15 h1
  text "4" at 14.967,13.15 h1
  text "8" at 7.767,13.15 h1
  text "6" at 11.367,13.15 h1
  text "14" at -32.25,13.15 h1
  text "16" at -35.85,13.15 h1
  text "12" at -28.65,13.15 h1
  text "10" at -25.05,13.15 h1
  text "2" at -10.233,13.15 h1
  text "4" at -13.833,13.15 h1
  text "8" at -21.033,13.15 h1
  text "6" at -17.433,13.15 h1
Bottom Overlay:
  text "F" at -36.567,7.75 h1
  text "E" at -36.567,6.4 h1
  text "D" at -36.567,5.05 h1
  text "C" at -36.567,3.7 h1
  text "G" at -36.567,9.1 h1
  text "A" at -36.567,1 h1
  text "B" at -36.567,2.35 h1
  text "6" at 26.433,13.15 h1
  text "8" at 22.833,13.15 h1
  text "4" at 30.033,13.15 h1
  text "2" at 33.633,13.15 h1
  text "F" at 39.033,7.75 h1
  text "E" at 39.033,6.4 h1
  text "D" at 39.033,5.05 h1
  text "C" at 39.033,3.7 h1
  text "G" at 39.033,9.1 h1
  text "A" at 39.033,1 h1
  text "B" at 39.033,2.35 h1
  text "2" at 19.233,13.15 h1
  text "4" at 15.633,13.15 h1
  text "8" at 8.433,13.15 h1
  text "6" at 12.033,13.15 h1
  text "10" at 5.25,13.15 h1
  text "12" at 1.65,13.15 h1
  text "14" at -1.95,13.15 h1
  text "16" at -5.55,13.15 h1
  text "2" at -9.567,13.15 h1
  text "4" at -13.167,13.15 h1
  text "8" at -20.367,13.15 h1
  text "6" at -16.767,13.15 h1
  text "10" at -23.55,13.15 h1
  text "12" at -27.15,13.15 h1
  text "14" at -30.75,13.15 h1
  text "16" at -34.35,13.15 h1

## XMG7015_P9 [mm]
pads (40):
  rect 1.5x1.5 hole 0.9: 1(-1.27,24.13)
  round 1.5 hole 0.9: 2(1.27,24.13) 3(-1.27,21.59) 4(1.27,21.59) 5(-1.27,19.05) 6(1.27,19.05) 7(-1.27,16.51) 8(1.27,16.51) 9(-1.27,13.97) 10(1.27,13.97) 11(-1.27,11.43) 12(1.27,11.43) 13(-1.27,8.89) 14(1.27,8.89) 15(-1.27,6.35) 16(1.27,6.35) 17(-1.27,3.81) 18(1.27,3.81) 19(-1.27,1.27) 20(1.27,1.27) 21(-1.27,-1.27) 22(1.27,-1.27) 23(-1.27,-3.81) 24(1.27,-3.81) 25(-1.27,-6.35) 26(1.27,-6.35) 27(-1.27,-8.89) 28(1.27,-8.89) 29(-1.27,-11.43) 30(1.27,-11.43) 31(-1.27,-13.97) 32(1.27,-13.97) 33(-1.27,-16.51) 34(1.27,-16.51) 35(-1.27,-19.05) 36(1.27,-19.05) 37(-1.27,-21.59) 38(1.27,-21.59) 39(-1.27,-24.13) 40(1.27,-24.13)
Top Overlay:
  lines w0.2: -0.254,-25.4 2.54,-25.4 2.54,10.16 2.54,25.4 -2.54,25.4 -2.54,10.16 -2.54,-25.4 0,-25.4
  lines w0.254: -3.937,23.114 -2.921,24.13 -3.937,25.146 -3.937,23.114